# EAGLE library part IC-9149 (library chuong)
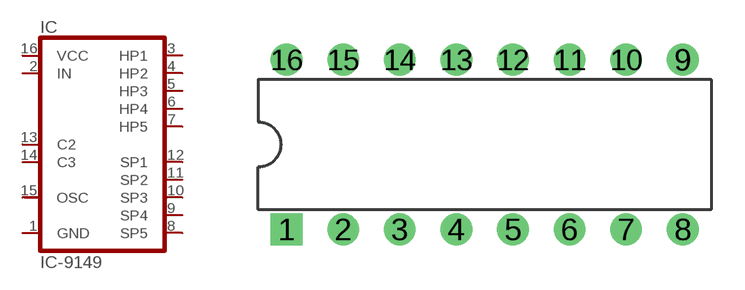
[diagram p0: symbol with the pads of DIL-16; footprint DIL-16]

Designator prefix IC

## IC-9149  [DIL-16]
1  GND  in
2  IN  in
3  HP1  out
4  HP2  out
5  HP3  out
6  HP4  out
7  HP5  out
8  SP5  in
9  SP4  in
10  SP3  in
11  SP2  out
12  SP1  out
13  C2  in
14  C3  in
15  OSC  in
16  VCC  in

## Footprint DIL-16 (pad centres in mm)
drill 0.61 pad 1.422 square: 1 -8.89,-3.81
drill 0.61 pad 1.422 round: 2 -6.35,-3.81; 3 -3.81,-3.81; 4 -1.27,-3.81; 5 1.27,-3.81; 6 3.81,-3.81; 7 6.35,-3.81; 8 8.89,-3.81; 9 8.89,3.81; 10 6.35,3.81; 11 3.81,3.81; 12 1.27,3.81; 13 -1.27,3.81; 14 -3.81,3.81; 15 -6.35,3.81; 16 -8.89,3.81